# Altium footprint library WURTH_61300311121.PcbLib: 1 footprints
Each footprint in its own frame and in the unit in brackets; x right, y up, seen from the top. Pads: shape width x height; smd on the part's side, far side on the other; paste and mask are expansions set on the pad; w line width, h text height; cw(c..) or ccw(c..) is an arc to the next point about the centre after c.
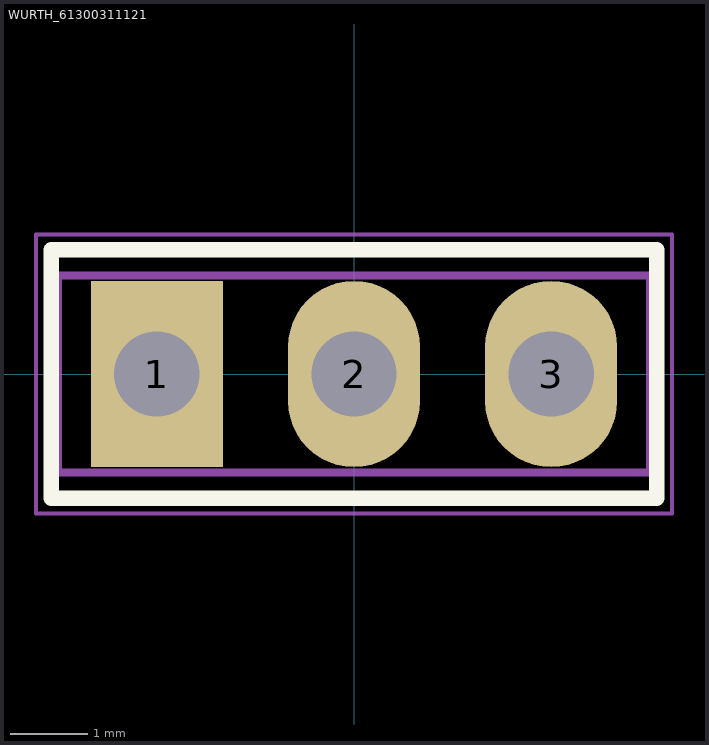
[diagram p0: the footprint, top view; thin cyan lines are the x and y axes]

## WURTH_61300311121 [mm] "WURTH_61300311121"
height 8.54
pads (3):
  rect 1.7x2.4 hole 1.1 mask+0.05: 1(-2.54,0)
  oval 1.7x2.4 hole 1.1 mask+0.05: 2(0,0) 3(2.54,0)
Top Overlay:
  lines w0.2: -3.9,-1.6 3.9,-1.6 3.9,1.6 -3.9,1.6 -3.9,-1.6
Top 3D Body:
  lines w0.1: -3.81,-1.27 -3.81,1.27 3.81,1.27 3.81,-1.27 -3.81,-1.27
Top Courtyard (Mech15):
  lines w0.05: -4.1,-1.8 -4.1,1.8 4.1,1.8 4.1,-1.8 -4.1,-1.8
  lines w0.1: -0.5,0 0.5,0 ; 0,-0.5 0,0.5
3D body "Term,Header,3Pin,2.54mm.stp": height 8.57, standoff -2.97, extent -3.81,-1.27 3.81,1.27